# EAGLE library part ES_FV-1_V1 (library Electrosmith_Boards)
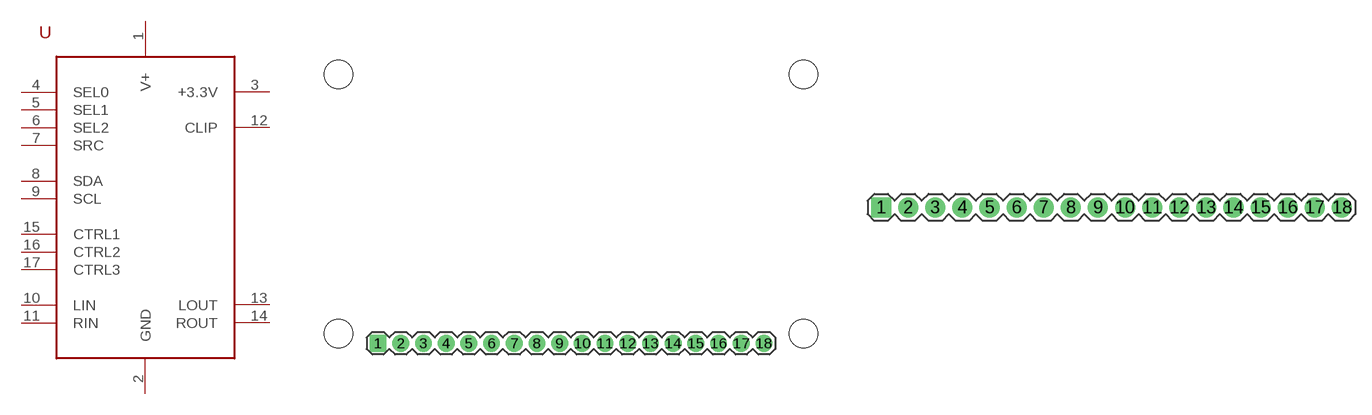
[diagram p9: symbol with the pads of ES_FV-1_4_HOLES; footprints ES_FV-1_4_HOLES, ES_FV-1_NO_HOLES]

Designator prefix -

## ES_FV-1_V1  [ES_FV-1_4_HOLES]
1  V+
2  GND
3  +3.3V
4  SEL0
5  SEL1
6  SEL2
7  SRC
8  SDA
9  SCL
10  LIN
11  RIN
12  CLIP
13  LOUT
14  ROUT
15  CTRL1
16  CTRL2
17  CTRL3

## ES_FV-1_V1_NO_HOLES  [ES_FV-1_NO_HOLES]
Pads as for ES_FV-1_4_HOLES

## ES_FV-1_V1_VERT  [ES_FV-1_VERT]
Pads as for ES_FV-1_4_HOLES

## Footprint ES_FV-1_4_HOLES (pad centres in mm)
drill 1.016 pad 1.88 square: 1 7.41,1.905
drill 1.016 pad 1.88: 2 9.95,1.905; 3 12.49,1.905; 4 15.03,1.905; 5 17.57,1.905; 6 20.11,1.905; 7 22.65,1.905; 8 25.19,1.905; 9 27.73,1.905; 10 30.27,1.905; 11 32.81,1.905; 12 35.35,1.905; 13 37.89,1.905; 14 40.43,1.905; 15 42.97,1.905; 16 45.51,1.905; 17 48.05,1.905; 18 50.59,1.905
hole 3.175 at 3,32
hole 3.175 at 55,32
hole 3.175 at 3,3
hole 3.175 at 55,3

## Footprint ES_FV-1_NO_HOLES (pad centres in mm)
drill 1.016 pad 1.88 square: 1 7.41,1.905
drill 1.016 pad 1.88: 2 9.95,1.905; 3 12.49,1.905; 4 15.03,1.905; 5 17.57,1.905; 6 20.11,1.905; 7 22.65,1.905; 8 25.19,1.905; 9 27.73,1.905; 10 30.27,1.905; 11 32.81,1.905; 12 35.35,1.905; 13 37.89,1.905; 14 40.43,1.905; 15 42.97,1.905; 16 45.51,1.905; 17 48.05,1.905; 18 50.59,1.905

## Footprint ES_FV-1_VERT (pad centres in mm)
drill 1.016 pad 1.88 square: 1 0,0
drill 1.016 pad 1.88: 2 2.54,0; 3 5.08,0; 4 7.62,0; 5 10.16,0; 6 12.7,0; 7 15.24,0; 8 17.78,0; 9 20.32,0; 10 22.86,0; 11 25.4,0; 12 27.94,0; 13 30.48,0; 14 33.02,0; 15 35.56,0; 16 38.1,0; 17 40.64,0; 18 43.18,0